# Altium integrated library ISSI SRAM Synchronous SRAM Flow-Through.IntLib: 689 symbols (part 27 of 79)
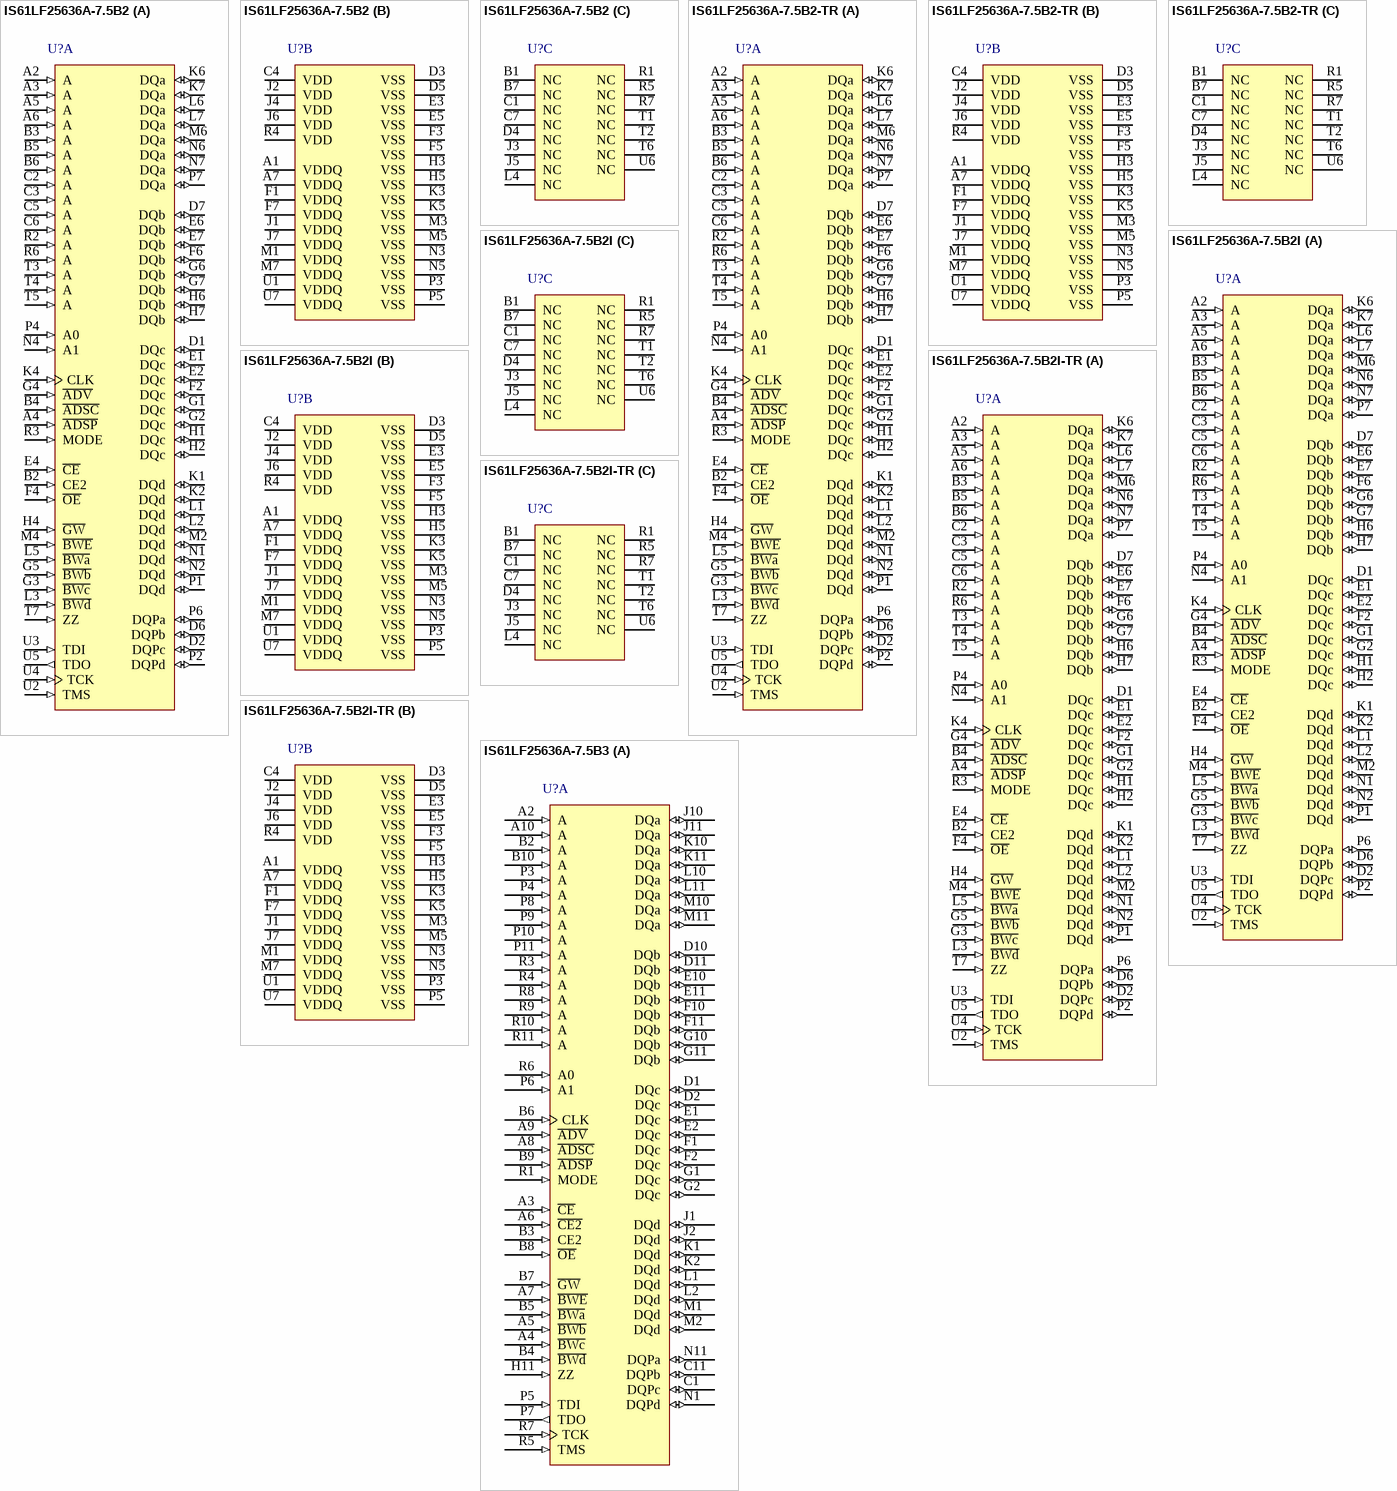
[diagram p161: symbols IS61LF25636A-7.5B2 to IS61LF25636A-7.5B3]

## IS61LF25636A-7.5B2I-TR
designator U?
9 M Synchronous Flow Through SRAM, 256 K x 36, -40 to 85 degC, 119-Pin BGA (PBGA-119); Manufacturer: Integrated Silicon Solution Inc (ISSI); PartNumber: IS61LF25636A-7.5B2I-TR; Density: 9M; Packing: Tape & Reel; Vcc: 3.3 V; VccQ: 2.5 / 3.3 V; DatasheetVersion: Rev. H; PackageVersion: Rev. D, 10/2008; PackageReference: PBGA-119; PackageDescription: 119-Pin 14 x 22 mm PBGA, Pitch 1.27 mm; Organization: 256Kx36; Mounting Technology: Surface Mount; Code_JEDEC: MS-028; ComponentLink1Description: Manufacturer URL; ComponentLink1URL: http://www.issi.com/US/index.shtml; ComponentLink2Description: Datasheet; ComponentLink2URL: http://www.issi.com/WW/pdf/61VF_LF25636A_51218A.pdf; ComponentLink3Description: Package Specification; ComponentLink3URL: http://www.issi.com/WW/pdf/61NLP_NVP25636A_51218A.pdf
footprint ISSI-PBGA-119-14000X22000DE (BGA, 119-Balls, Body 22x14mm, Pitch 1.27mm)
part A pins: A2 A (in) "Address Input", A3 A (in) "Address Input", A4 ~{ADSP} (in) "Address Status Processor", A5 A (in) "Address Input", A6 A (in) "Address Input", B2 CE2 (in) "Synchronous Chip Select", B3 A (in) "Address Input", B4 ~{ADSC} (in) "Address Status Controller", B5 A (in) "Address Input", B6 A (in) "Address Input", C2 A (in) "Address Input", C3 A (in) "Address Input", C5 A (in) "Address Input", C6 A (in) "Address Input", D1 DQc (io) "Data Input/Output", D2 DQPc (io) "Parity Data I/O", D6 DQPb (io) "Parity Data I/O", D7 DQb (io) "Data Input/Output", E1 DQc (io) "Data Input/Output", E2 DQc (io) "Data Input/Output", E4 ~{CE} (in) "Synchronous Chip Select", E6 DQb (io) "Data Input/Output", E7 DQb (io) "Data Input/Output", F2 DQc (io) "Data Input/Output", F4 ~{OE} (in) "Output Enable", F6 DQb (io) "Data Input/Output", G1 DQc (io) "Data Input/Output", G2 DQc (io) "Data Input/Output", G3 ~{BWc} (in) "Synchronous Byte Write Control", G4 ~{ADV} (in) "Synchronous Burst Address Advance", G5 ~{BWb} (in) "Synchronous Byte Write Control", G6 DQb (io) "Data Input/Output", G7 DQb (io) "Data Input/Output", H1 DQc (io) "Data Input/Output", H2 DQc (io) "Data Input/Output", H4 ~{GW} (in) "Global Write Enable", H6 DQb (io) "Data Input/Output", H7 DQb (io) "Data Input/Output", K1 DQd (io) "Data Input/Output", K2 DQd (io) "Data Input/Output", K4 CLK (in) "Synchronous Clock", K6 DQa (io) "Data Input/Output", K7 DQa (io) "Data Input/Output", L1 DQd (io) "Data Input/Output", L2 DQd (io) "Data Input/Output", L3 ~{BWd} (in) "Synchronous Byte Write Control", L5 ~{BWa} (in) "Synchronous Byte Write Control", L6 DQa (io) "Data Input/Output", L7 DQa (io) "Data Input/Output", M2 DQd (io) "Data Input/Output", M4 ~{BWE} (in) "Byte Write Enable", M6 DQa (io) "Data Input/Output", N1 DQd (io) "Data Input/Output", N2 DQd (io) "Data Input/Output", N4 A1 (in) "Synchronous Burst Address Input", N6 DQa (io) "Data Input/Output", N7 DQa (io) "Data Input/Output", P1 DQd (io) "Data Input/Output", P2 DQPd (io) "Parity Data I/O", P4 A0 (in) "Synchronous Burst Address Input", P6 DQPa (io) "Parity Data I/O", P7 DQa (io) "Data Input/Output", R2 A (in) "Address Input", R3 MODE (in) "Burst Sequence Selection", R6 A (in) "Address Input", T3 A (in) "Address Input", T4 A (in) "Address Input", T5 A (in) "Address Input", T7 ZZ (in) "Power Sleep Mode", U2 TMS (in) "JTAG Pin", U3 TDI (in) "JTAG Pin", U4 TCK (in) "JTAG Pin", U5 TDO (out) "JTAG Pin"
part B pins: A1 VDDQ (power) "Output Power Supply", A7 VDDQ (power) "Output Power Supply", C4 VDD (power) "Power Supply", D3 VSS (power) "Ground", D5 VSS (power) "Ground", E3 VSS (power) "Ground", E5 VSS (power) "Ground", F1 VDDQ (power) "Output Power Supply", F3 VSS (power) "Ground", F5 VSS (power) "Ground", F7 VDDQ (power) "Output Power Supply", H3 VSS (power) "Ground", H5 VSS (power) "Ground", J1 VDDQ (power) "Output Power Supply", J2 VDD (power) "Power Supply", J4 VDD (power) "Power Supply", J6 VDD (power) "Power Supply", J7 VDDQ (power) "Output Power Supply", K3 VSS (power) "Ground", K5 VSS (power) "Ground", M1 VDDQ (power) "Output Power Supply", M3 VSS (power) "Ground", M5 VSS (power) "Ground", M7 VDDQ (power) "Output Power Supply", N3 VSS (power) "Ground", N5 VSS (power) "Ground", P3 VSS (power) "Ground", P5 VSS (power) "Ground", R4 VDD (power) "Power Supply", U1 VDDQ (power) "Output Power Supply", U7 VDDQ (power) "Output Power Supply"
part C pins: B1 NC "No Connect", B7 NC "No Connect", C1 NC "No Connect", C7 NC "No Connect", D4 NC "No Connect", J3 NC "No Connect", J5 NC "No Connect", L4 NC "No Connect", R1 NC "No Connect", R5 NC "No Connect", R7 NC "No Connect", T1 NC "No Connect", T2 NC "No Connect", T6 NC "No Connect", U6 NC "No Connect"

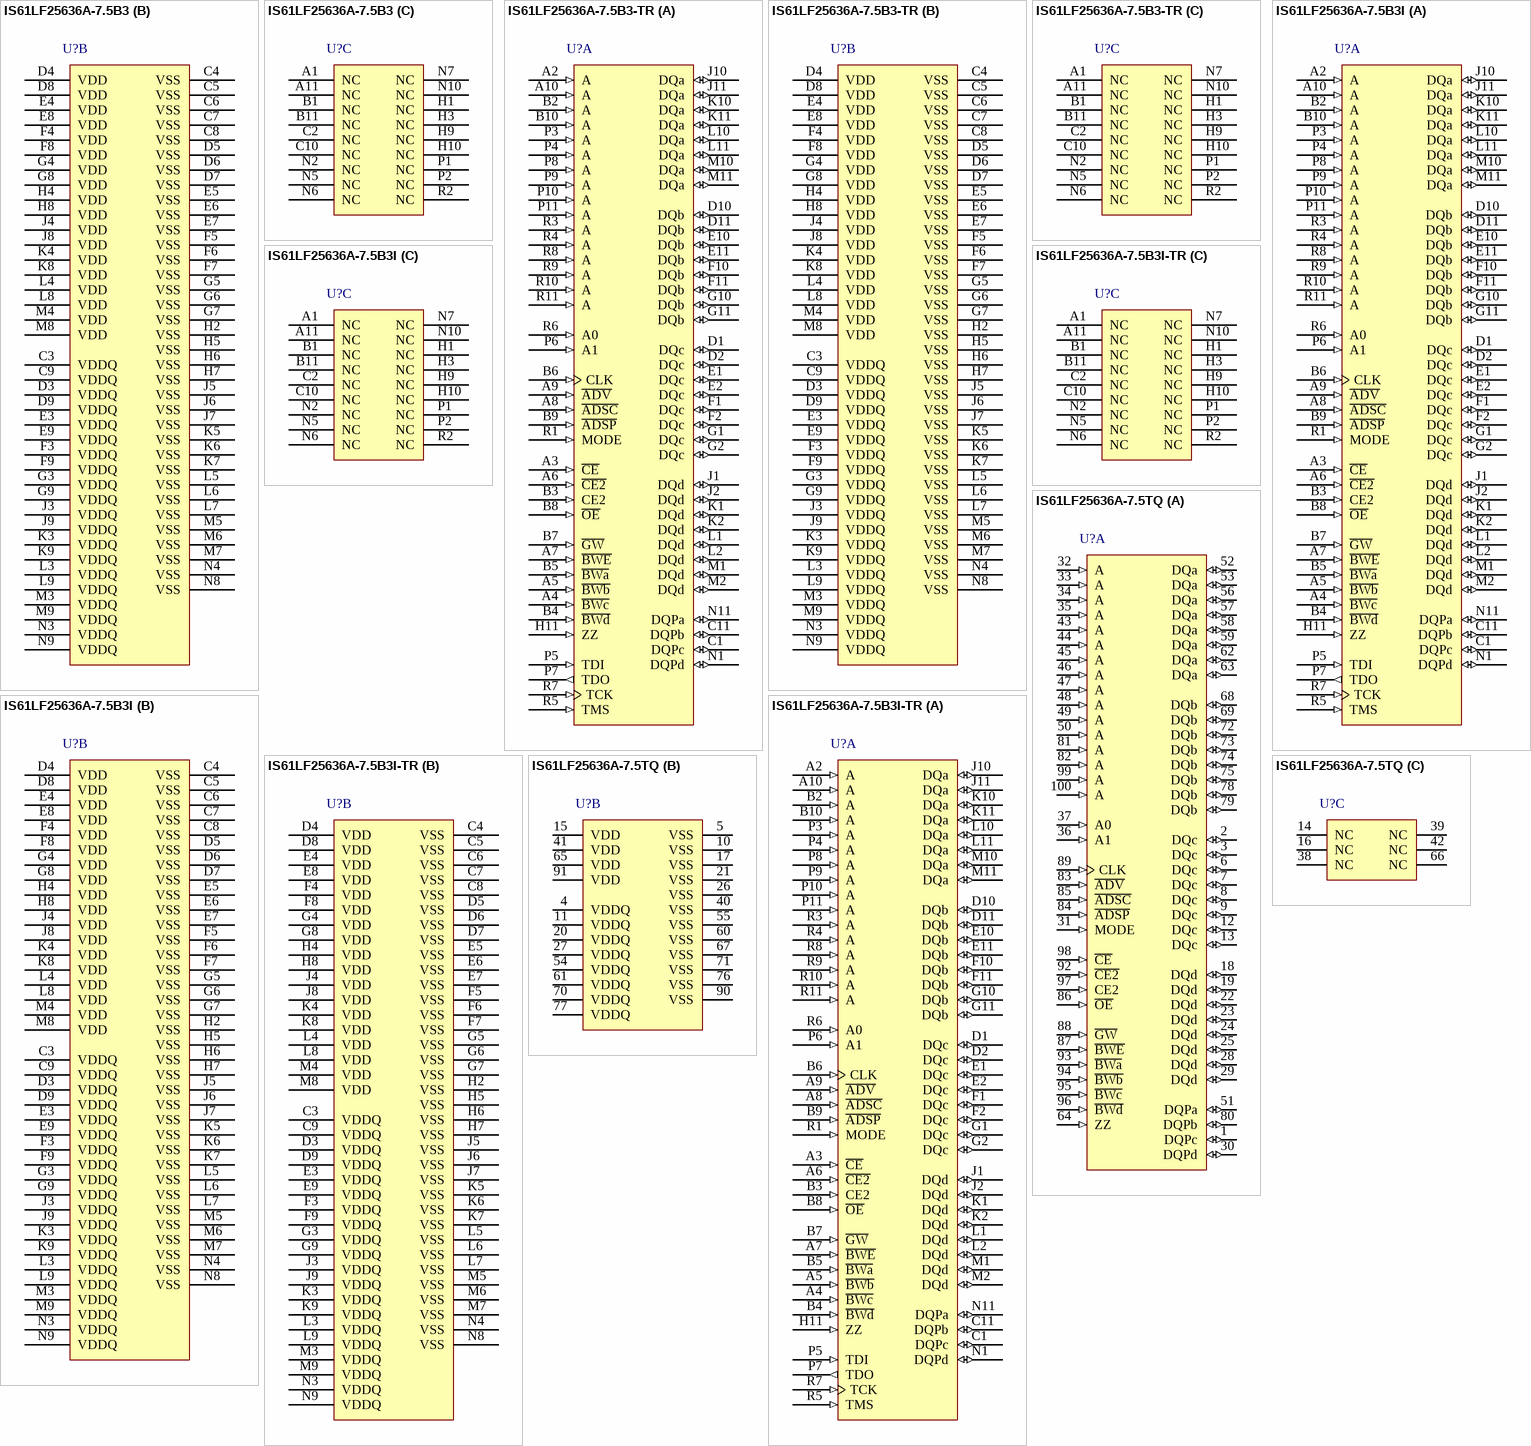
[diagram p46: symbols IS61LF25636A-7.5B3 to IS61LF25636A-7.5TQ]

## IS61LF25636A-7.5B3
designator U?
9 M Synchronous Flow Through SRAM, 256 K x 36, 0 to 70 degC, 165-Pin BGA (TF-BGA-165); Manufacturer: Integrated Silicon Solution Inc (ISSI); PartNumber: IS61LF25636A-7.5B3; Density: 9M; Packing: Tray / Tube; Vcc: 3.3 V; VccQ: 2.5 / 3.3 V; DatasheetVersion: Rev. H; PackageVersion: Rev. B, 08/2008; PackageReference: TF-BGA-165; PackageDescription: 165-Pin 13 x 15 mm TF-BGA, Pitch 1 mm; Organization: 256Kx36; Mounting Technology: Surface Mount; ComponentLink1Description: Manufacturer URL; ComponentLink1URL: http://www.issi.com/US/index.shtml; ComponentLink2Description: Datasheet; ComponentLink2URL: http://www.issi.com/WW/pdf/61VF_LF25636A_51218A.pdf; ComponentLink3Description: Package Specification; ComponentLink3URL: http://www.issi.com/WW/pdf/61NLP_NVP25636A_51218A.pdf
footprint ISSI-TF-BGA-165-13000X15000DE (BGA, 165-Balls, Body 15x13mm, Pitch 1mm)
part A pins: A2 A (in) "Synchronous Address Inputs", A3 ~{CE} (in) "Synchronous Chip Enable", A4 ~{BWc} (in) "Synchronous Byte Write Inputs", A5 ~{BWb} (in) "Synchronous Byte Write Inputs", A6 ~{CE2} (in) "Synchronous Chip Enable", A7 ~{BWE} (in) "Byte Write Enable", A8 ~{ADSC} (in) "Synchronous Advance/Load", A9 ~{ADV} (in) "Synchronous Burst Address Advance", A10 A (in) "Synchronous Address Inputs", B2 A (in) "Synchronous Address Inputs", B3 CE2 (in) "Synchronous Chip Enable", B4 ~{BWd} (in) "Synchronous Byte Write Inputs", B5 ~{BWa} (in) "Synchronous Byte Write Inputs", B6 CLK (in) "Synchronous Clock", B7 ~{GW} (in) "Global Write Enable", B8 ~{OE} (in) "Asynchronous Output Enable", B9 ~{ADSP} (in) "Address Status Processor", B10 A (in) "Synchronous Address Inputs", C1 DQPc (io) "Synchronous Parity Data I/O", C11 DQPb (io) "Synchronous Parity Data I/O", D1 DQc (io) "Synchronous Data Inputs/Outputs", D2 DQc (io) "Synchronous Data Inputs/Outputs", D10 DQb (io) "Synchronous Data Inputs/Outputs", D11 DQb (io) "Synchronous Data Inputs/Outputs", E1 DQc (io) "Synchronous Data Inputs/Outputs", E2 DQc (io) "Synchronous Data Inputs/Outputs", E10 DQb (io) "Synchronous Data Inputs/Outputs", E11 DQb (io) "Synchronous Data Inputs/Outputs", F1 DQc (io) "Synchronous Data Inputs/Outputs", F2 DQc (io) "Synchronous Data Inputs/Outputs", F10 DQb (io) "Synchronous Data Inputs/Outputs", F11 DQb (io) "Synchronous Data Inputs/Outputs", G1 DQc (io) "Synchronous Data Inputs/Outputs", G2 DQc (io) "Synchronous Data Inputs/Outputs", G10 DQb (io) "Synchronous Data Inputs/Outputs", G11 DQb (io) "Synchronous Data Inputs/Outputs", H11 ZZ (in) "Asynchronous Power Sleep Mode", J1 DQd (io) "Synchronous Data Inputs/Outputs", J2 DQd (io) "Synchronous Data Inputs/Outputs", J10 DQa (io) "Synchronous Data Inputs/Outputs", J11 DQa (io) "Synchronous Data Inputs/Outputs", K1 DQd (io) "Synchronous Data Inputs/Outputs", K2 DQd (io) "Synchronous Data Inputs/Outputs", K10 DQa (io) "Synchronous Data Inputs/Outputs", K11 DQa (io) "Synchronous Data Inputs/Outputs", L1 DQd (io) "Synchronous Data Inputs/Outputs", L2 DQd (io) "Synchronous Data Inputs/Outputs", L10 DQa (io) "Synchronous Data Inputs/Outputs", L11 DQa (io) "Synchronous Data Inputs/Outputs", M1 DQd (io) "Synchronous Data Inputs/Outputs", M2 DQd (io) "Synchronous Data Inputs/Outputs", M10 DQa (io) "Synchronous Data Inputs/Outputs", M11 DQa (io) "Synchronous Data Inputs/Outputs", N1 DQPd (io) "Synchronous Parity Data I/O", N11 DQPa (io) "Synchronous Parity Data I/O", P3 A (in) "Synchronous Address Inputs", P4 A (in) "Synchronous Address Inputs", P5 TDI (in) "JTAG Pins", P6 A1 (in) "Synchronous Burst Address Inputs", P7 TDO (out) "JTAG Pins", P8 A (in) "Synchronous Address Inputs", P9 A (in) "Synchronous Address Inputs", P10 A (in) "Synchronous Address Inputs", P11 A (in) "Address Input", R1 MODE (in) "Burst Sequence Selection", R3 A (in) "Synchronous Address Inputs", R4 A (in) "Synchronous Address Inputs", R5 TMS (in) "JTAG Pins", R6 A0 (in) "Synchronous Burst Address Inputs", R7 TCK (in) "JTAG Pins", R8 A (in) "Synchronous Address Inputs", R9 A (in) "Synchronous Address Inputs", R10 A (in) "Synchronous Address Inputs", R11 A (in) "Synchronous Address Inputs"
part B pins: C3 VDDQ (power) "Isolated Output Power Supply 3.3V/2.5V", C4 VSS (power) "Ground", C5 VSS (power) "Ground", C6 VSS (power) "Ground", C7 VSS (power) "Ground", C8 VSS (power) "Ground", C9 VDDQ (power) "Isolated Output Power Supply 3.3V/2.5V", D3 VDDQ (power) "Isolated Output Power Supply 3.3V/2.5V", D4 VDD (power) "3.3V/2.5V Power Supply", D5 VSS (power) "Ground", D6 VSS (power) "Ground", D7 VSS (power) "Ground", D8 VDD (power) "3.3V/2.5V Power Supply", D9 VDDQ (power) "Isolated Output Power Supply 3.3V/2.5V", E3 VDDQ (power) "Isolated Output Power Supply 3.3V/2.5V", E4 VDD (power) "3.3V/2.5V Power Supply", E5 VSS (power) "Ground", E6 VSS (power) "Ground", E7 VSS (power) "Ground", E8 VDD (power) "3.3V/2.5V Power Supply", E9 VDDQ (power) "Isolated Output Power Supply 3.3V/2.5V", F3 VDDQ (power) "Isolated Output Power Supply 3.3V/2.5V", F4 VDD (power) "3.3V/2.5V Power Supply", F5 VSS (power) "Ground", F6 VSS (power) "Ground", F7 VSS (power) "Ground", F8 VDD (power) "3.3V/2.5V Power Supply", F9 VDDQ (power) "Isolated Output Power Supply 3.3V/2.5V", G3 VDDQ (power) "Isolated Output Power Supply 3.3V/2.5V", G4 VDD (power) "3.3V/2.5V Power Supply", G5 VSS (power) "Ground", G6 VSS (power) "Ground", G7 VSS (power) "Ground", G8 VDD (power) "3.3V/2.5V Power Supply", G9 VDDQ (power) "Isolated Output Power Supply 3.3V/2.5V", H2 VSS (power) "Ground", H4 VDD (power) "3.3V/2.5V Power Supply", H5 VSS (power) "Ground", H6 VSS (power) "Ground", H7 VSS (power) "Ground", H8 VDD (power) "3.3V/2.5V Power Supply", J3 VDDQ (power) "Isolated Output Power Supply 3.3V/2.5V", J4 VDD (power) "3.3V/2.5V Power Supply", J5 VSS (power) "Ground", J6 VSS (power) "Ground", J7 VSS (power) "Ground", J8 VDD (power) "3.3V/2.5V Power Supply", J9 VDDQ (power) "Isolated Output Power Supply 3.3V/2.5V", K3 VDDQ (power) "Isolated Output Power Supply 3.3V/2.5V", K4 VDD (power) "3.3V/2.5V Power Supply", K5 VSS (power) "Ground", K6 VSS (power) "Ground", K7 VSS (power) "Ground", K8 VDD (power) "3.3V/2.5V Power Supply", K9 VDDQ (power) "Isolated Output Power Supply 3.3V/2.5V", L3 VDDQ (power) "Isolated Output Power Supply 3.3V/2.5V", L4 VDD (power) "3.3V/2.5V Power Supply", L5 VSS (power) "Ground", L6 VSS (power) "Ground", L7 VSS (power) "Ground", L8 VDD (power) "3.3V/2.5V Power Supply", L9 VDDQ (power) "Isolated Output Power Supply 3.3V/2.5V", M3 VDDQ (power) "Isolated Output Power Supply 3.3V/2.5V", M4 VDD (power) "3.3V/2.5V Power Supply", M5 VSS (power) "Ground", M6 VSS (power) "Ground", M7 VSS (power) "Ground", M8 VDD (power) "3.3V/2.5V Power Supply", M9 VDDQ (power) "Isolated Output Power Supply 3.3V/2.5V", N3 VDDQ (power) "Isolated Output Power Supply 3.3V/2.5V", N4 VSS (power) "Ground", N8 VSS (power) "Ground", N9 VDDQ (power) "Isolated Output Power Supply 3.3V/2.5V"
part C pins: A1 NC "No Connect", A11 NC "No Connect", B1 NC "No Connect", B11 NC "No Connect", C2 NC "No Connect", C10 NC "No Connect", H1 NC "No Connect", H3 NC "No Connect", H9 NC "No Connect", H10 NC "No Connect", N2 NC "No Connect", N5 NC "No Connect", N6 NC "No Connect", N7 NC "No Connect", N10 NC "No Connect", P1 NC "No Connect", P2 NC "No Connect", R2 NC "No Connect"

## IS61LF25636A-7.5B3-TR
designator U?
9 M Synchronous Flow Through SRAM, 256 K x 36, 0 to 70 degC, 165-Pin BGA (TF-BGA-165); Manufacturer: Integrated Silicon Solution Inc (ISSI); PartNumber: IS61LF25636A-7.5B3-TR; Density: 9M; Packing: Tape & Reel; Vcc: 3.3 V; VccQ: 2.5 / 3.3 V; DatasheetVersion: Rev. H; PackageVersion: Rev. B, 08/2008; PackageReference: TF-BGA-165; PackageDescription: 165-Pin 13 x 15 mm TF-BGA, Pitch 1 mm; Organization: 256Kx36; Mounting Technology: Surface Mount; ComponentLink1Description: Manufacturer URL; ComponentLink1URL: http://www.issi.com/US/index.shtml; ComponentLink2Description: Datasheet; ComponentLink2URL: http://www.issi.com/WW/pdf/61VF_LF25636A_51218A.pdf; ComponentLink3Description: Package Specification; ComponentLink3URL: http://www.issi.com/WW/pdf/61NLP_NVP25636A_51218A.pdf
footprint ISSI-TF-BGA-165-13000X15000DE (BGA, 165-Balls, Body 15x13mm, Pitch 1mm)
part A pins: A2 A (in) "Synchronous Address Inputs", A3 ~{CE} (in) "Synchronous Chip Enable", A4 ~{BWc} (in) "Synchronous Byte Write Inputs", A5 ~{BWb} (in) "Synchronous Byte Write Inputs", A6 ~{CE2} (in) "Synchronous Chip Enable", A7 ~{BWE} (in) "Byte Write Enable", A8 ~{ADSC} (in) "Synchronous Advance/Load", A9 ~{ADV} (in) "Synchronous Burst Address Advance", A10 A (in) "Synchronous Address Inputs", B2 A (in) "Synchronous Address Inputs", B3 CE2 (in) "Synchronous Chip Enable", B4 ~{BWd} (in) "Synchronous Byte Write Inputs", B5 ~{BWa} (in) "Synchronous Byte Write Inputs", B6 CLK (in) "Synchronous Clock", B7 ~{GW} (in) "Global Write Enable", B8 ~{OE} (in) "Asynchronous Output Enable", B9 ~{ADSP} (in) "Address Status Processor", B10 A (in) "Synchronous Address Inputs", C1 DQPc (io) "Synchronous Parity Data I/O", C11 DQPb (io) "Synchronous Parity Data I/O", D1 DQc (io) "Synchronous Data Inputs/Outputs", D2 DQc (io) "Synchronous Data Inputs/Outputs", D10 DQb (io) "Synchronous Data Inputs/Outputs", D11 DQb (io) "Synchronous Data Inputs/Outputs", E1 DQc (io) "Synchronous Data Inputs/Outputs", E2 DQc (io) "Synchronous Data Inputs/Outputs", E10 DQb (io) "Synchronous Data Inputs/Outputs", E11 DQb (io) "Synchronous Data Inputs/Outputs", F1 DQc (io) "Synchronous Data Inputs/Outputs", F2 DQc (io) "Synchronous Data Inputs/Outputs", F10 DQb (io) "Synchronous Data Inputs/Outputs", F11 DQb (io) "Synchronous Data Inputs/Outputs", G1 DQc (io) "Synchronous Data Inputs/Outputs", G2 DQc (io) "Synchronous Data Inputs/Outputs", G10 DQb (io) "Synchronous Data Inputs/Outputs", G11 DQb (io) "Synchronous Data Inputs/Outputs", H11 ZZ (in) "Asynchronous Power Sleep Mode", J1 DQd (io) "Synchronous Data Inputs/Outputs", J2 DQd (io) "Synchronous Data Inputs/Outputs", J10 DQa (io) "Synchronous Data Inputs/Outputs", J11 DQa (io) "Synchronous Data Inputs/Outputs", K1 DQd (io) "Synchronous Data Inputs/Outputs", K2 DQd (io) "Synchronous Data Inputs/Outputs", K10 DQa (io) "Synchronous Data Inputs/Outputs", K11 DQa (io) "Synchronous Data Inputs/Outputs", L1 DQd (io) "Synchronous Data Inputs/Outputs", L2 DQd (io) "Synchronous Data Inputs/Outputs", L10 DQa (io) "Synchronous Data Inputs/Outputs", L11 DQa (io) "Synchronous Data Inputs/Outputs", M1 DQd (io) "Synchronous Data Inputs/Outputs", M2 DQd (io) "Synchronous Data Inputs/Outputs", M10 DQa (io) "Synchronous Data Inputs/Outputs", M11 DQa (io) "Synchronous Data Inputs/Outputs", N1 DQPd (io) "Synchronous Parity Data I/O", N11 DQPa (io) "Synchronous Parity Data I/O", P3 A (in) "Synchronous Address Inputs", P4 A (in) "Synchronous Address Inputs", P5 TDI (in) "JTAG Pins", P6 A1 (in) "Synchronous Burst Address Inputs", P7 TDO (out) "JTAG Pins", P8 A (in) "Synchronous Address Inputs", P9 A (in) "Synchronous Address Inputs", P10 A (in) "Synchronous Address Inputs", P11 A (in) "Address Input", R1 MODE (in) "Burst Sequence Selection", R3 A (in) "Synchronous Address Inputs", R4 A (in) "Synchronous Address Inputs", R5 TMS (in) "JTAG Pins", R6 A0 (in) "Synchronous Burst Address Inputs", R7 TCK (in) "JTAG Pins", R8 A (in) "Synchronous Address Inputs", R9 A (in) "Synchronous Address Inputs", R10 A (in) "Synchronous Address Inputs", R11 A (in) "Synchronous Address Inputs"
part B pins: C3 VDDQ (power) "Isolated Output Power Supply 3.3V/2.5V", C4 VSS (power) "Ground", C5 VSS (power) "Ground", C6 VSS (power) "Ground", C7 VSS (power) "Ground", C8 VSS (power) "Ground", C9 VDDQ (power) "Isolated Output Power Supply 3.3V/2.5V", D3 VDDQ (power) "Isolated Output Power Supply 3.3V/2.5V", D4 VDD (power) "3.3V/2.5V Power Supply", D5 VSS (power) "Ground", D6 VSS (power) "Ground", D7 VSS (power) "Ground", D8 VDD (power) "3.3V/2.5V Power Supply", D9 VDDQ (power) "Isolated Output Power Supply 3.3V/2.5V", E3 VDDQ (power) "Isolated Output Power Supply 3.3V/2.5V", E4 VDD (power) "3.3V/2.5V Power Supply", E5 VSS (power) "Ground", E6 VSS (power) "Ground", E7 VSS (power) "Ground", E8 VDD (power) "3.3V/2.5V Power Supply", E9 VDDQ (power) "Isolated Output Power Supply 3.3V/2.5V", F3 VDDQ (power) "Isolated Output Power Supply 3.3V/2.5V", F4 VDD (power) "3.3V/2.5V Power Supply", F5 VSS (power) "Ground", F6 VSS (power) "Ground", F7 VSS (power) "Ground", F8 VDD (power) "3.3V/2.5V Power Supply", F9 VDDQ (power) "Isolated Output Power Supply 3.3V/2.5V", G3 VDDQ (power) "Isolated Output Power Supply 3.3V/2.5V", G4 VDD (power) "3.3V/2.5V Power Supply", G5 VSS (power) "Ground", G6 VSS (power) "Ground", G7 VSS (power) "Ground", G8 VDD (power) "3.3V/2.5V Power Supply", G9 VDDQ (power) "Isolated Output Power Supply 3.3V/2.5V", H2 VSS (power) "Ground", H4 VDD (power) "3.3V/2.5V Power Supply", H5 VSS (power) "Ground", H6 VSS (power) "Ground", H7 VSS (power) "Ground", H8 VDD (power) "3.3V/2.5V Power Supply", J3 VDDQ (power) "Isolated Output Power Supply 3.3V/2.5V", J4 VDD (power) "3.3V/2.5V Power Supply", J5 VSS (power) "Ground", J6 VSS (power) "Ground", J7 VSS (power) "Ground", J8 VDD (power) "3.3V/2.5V Power Supply", J9 VDDQ (power) "Isolated Output Power Supply 3.3V/2.5V", K3 VDDQ (power) "Isolated Output Power Supply 3.3V/2.5V", K4 VDD (power) "3.3V/2.5V Power Supply", K5 VSS (power) "Ground", K6 VSS (power) "Ground", K7 VSS (power) "Ground", K8 VDD (power) "3.3V/2.5V Power Supply", K9 VDDQ (power) "Isolated Output Power Supply 3.3V/2.5V", L3 VDDQ (power) "Isolated Output Power Supply 3.3V/2.5V", L4 VDD (power) "3.3V/2.5V Power Supply", L5 VSS (power) "Ground", L6 VSS (power) "Ground", L7 VSS (power) "Ground", L8 VDD (power) "3.3V/2.5V Power Supply", L9 VDDQ (power) "Isolated Output Power Supply 3.3V/2.5V", M3 VDDQ (power) "Isolated Output Power Supply 3.3V/2.5V", M4 VDD (power) "3.3V/2.5V Power Supply", M5 VSS (power) "Ground", M6 VSS (power) "Ground", M7 VSS (power) "Ground", M8 VDD (power) "3.3V/2.5V Power Supply", M9 VDDQ (power) "Isolated Output Power Supply 3.3V/2.5V", N3 VDDQ (power) "Isolated Output Power Supply 3.3V/2.5V", N4 VSS (power) "Ground", N8 VSS (power) "Ground", N9 VDDQ (power) "Isolated Output Power Supply 3.3V/2.5V"
part C pins: A1 NC "No Connect", A11 NC "No Connect", B1 NC "No Connect", B11 NC "No Connect", C2 NC "No Connect", C10 NC "No Connect", H1 NC "No Connect", H3 NC "No Connect", H9 NC "No Connect", H10 NC "No Connect", N2 NC "No Connect", N5 NC "No Connect", N6 NC "No Connect", N7 NC "No Connect", N10 NC "No Connect", P1 NC "No Connect", P2 NC "No Connect", R2 NC "No Connect"

## IS61LF25636A-7.5B3I
designator U?
9 M Synchronous Flow Through SRAM, 256 K x 36, -40 to 85 degC, 165-Pin BGA (TF-BGA-165); Manufacturer: Integrated Silicon Solution Inc (ISSI); PartNumber: IS61LF25636A-7.5B3I; Density: 9M; Packing: Tray / Tube; Vcc: 3.3 V; VccQ: 2.5 / 3.3 V; DatasheetVersion: Rev. H; PackageVersion: Rev. B, 08/2008; PackageReference: TF-BGA-165; PackageDescription: 165-Pin 13 x 15 mm TF-BGA, Pitch 1 mm; Organization: 256Kx36; Mounting Technology: Surface Mount; ComponentLink1Description: Manufacturer URL; ComponentLink1URL: http://www.issi.com/US/index.shtml; ComponentLink2Description: Datasheet; ComponentLink2URL: http://www.issi.com/WW/pdf/61VF_LF25636A_51218A.pdf; ComponentLink3Description: Package Specification; ComponentLink3URL: http://www.issi.com/WW/pdf/61NLP_NVP25636A_51218A.pdf
footprint ISSI-TF-BGA-165-13000X15000DE (BGA, 165-Balls, Body 15x13mm, Pitch 1mm)
part A pins: A2 A (in) "Synchronous Address Inputs", A3 ~{CE} (in) "Synchronous Chip Enable", A4 ~{BWc} (in) "Synchronous Byte Write Inputs", A5 ~{BWb} (in) "Synchronous Byte Write Inputs", A6 ~{CE2} (in) "Synchronous Chip Enable", A7 ~{BWE} (in) "Byte Write Enable", A8 ~{ADSC} (in) "Synchronous Advance/Load", A9 ~{ADV} (in) "Synchronous Burst Address Advance", A10 A (in) "Synchronous Address Inputs", B2 A (in) "Synchronous Address Inputs", B3 CE2 (in) "Synchronous Chip Enable", B4 ~{BWd} (in) "Synchronous Byte Write Inputs", B5 ~{BWa} (in) "Synchronous Byte Write Inputs", B6 CLK (in) "Synchronous Clock", B7 ~{GW} (in) "Global Write Enable", B8 ~{OE} (in) "Asynchronous Output Enable", B9 ~{ADSP} (in) "Address Status Processor", B10 A (in) "Synchronous Address Inputs", C1 DQPc (io) "Synchronous Parity Data I/O", C11 DQPb (io) "Synchronous Parity Data I/O", D1 DQc (io) "Synchronous Data Inputs/Outputs", D2 DQc (io) "Synchronous Data Inputs/Outputs", D10 DQb (io) "Synchronous Data Inputs/Outputs", D11 DQb (io) "Synchronous Data Inputs/Outputs", E1 DQc (io) "Synchronous Data Inputs/Outputs", E2 DQc (io) "Synchronous Data Inputs/Outputs", E10 DQb (io) "Synchronous Data Inputs/Outputs", E11 DQb (io) "Synchronous Data Inputs/Outputs", F1 DQc (io) "Synchronous Data Inputs/Outputs", F2 DQc (io) "Synchronous Data Inputs/Outputs", F10 DQb (io) "Synchronous Data Inputs/Outputs", F11 DQb (io) "Synchronous Data Inputs/Outputs", G1 DQc (io) "Synchronous Data Inputs/Outputs", G2 DQc (io) "Synchronous Data Inputs/Outputs", G10 DQb (io) "Synchronous Data Inputs/Outputs", G11 DQb (io) "Synchronous Data Inputs/Outputs", H11 ZZ (in) "Asynchronous Power Sleep Mode", J1 DQd (io) "Synchronous Data Inputs/Outputs", J2 DQd (io) "Synchronous Data Inputs/Outputs", J10 DQa (io) "Synchronous Data Inputs/Outputs", J11 DQa (io) "Synchronous Data Inputs/Outputs", K1 DQd (io) "Synchronous Data Inputs/Outputs", K2 DQd (io) "Synchronous Data Inputs/Outputs", K10 DQa (io) "Synchronous Data Inputs/Outputs", K11 DQa (io) "Synchronous Data Inputs/Outputs", L1 DQd (io) "Synchronous Data Inputs/Outputs", L2 DQd (io) "Synchronous Data Inputs/Outputs", L10 DQa (io) "Synchronous Data Inputs/Outputs", L11 DQa (io) "Synchronous Data Inputs/Outputs", M1 DQd (io) "Synchronous Data Inputs/Outputs", M2 DQd (io) "Synchronous Data Inputs/Outputs", M10 DQa (io) "Synchronous Data Inputs/Outputs", M11 DQa (io) "Synchronous Data Inputs/Outputs", N1 DQPd (io) "Synchronous Parity Data I/O", N11 DQPa (io) "Synchronous Parity Data I/O", P3 A (in) "Synchronous Address Inputs", P4 A (in) "Synchronous Address Inputs", P5 TDI (in) "JTAG Pins", P6 A1 (in) "Synchronous Burst Address Inputs", P7 TDO (out) "JTAG Pins", P8 A (in) "Synchronous Address Inputs", P9 A (in) "Synchronous Address Inputs", P10 A (in) "Synchronous Address Inputs", P11 A (in) "Address Input", R1 MODE (in) "Burst Sequence Selection", R3 A (in) "Synchronous Address Inputs", R4 A (in) "Synchronous Address Inputs", R5 TMS (in) "JTAG Pins", R6 A0 (in) "Synchronous Burst Address Inputs", R7 TCK (in) "JTAG Pins", R8 A (in) "Synchronous Address Inputs", R9 A (in) "Synchronous Address Inputs", R10 A (in) "Synchronous Address Inputs", R11 A (in) "Synchronous Address Inputs"
part B pins: C3 VDDQ (power) "Isolated Output Power Supply 3.3V/2.5V", C4 VSS (power) "Ground", C5 VSS (power) "Ground", C6 VSS (power) "Ground", C7 VSS (power) "Ground", C8 VSS (power) "Ground", C9 VDDQ (power) "Isolated Output Power Supply 3.3V/2.5V", D3 VDDQ (power) "Isolated Output Power Supply 3.3V/2.5V", D4 VDD (power) "3.3V/2.5V Power Supply", D5 VSS (power) "Ground", D6 VSS (power) "Ground", D7 VSS (power) "Ground", D8 VDD (power) "3.3V/2.5V Power Supply", D9 VDDQ (power) "Isolated Output Power Supply 3.3V/2.5V", E3 VDDQ (power) "Isolated Output Power Supply 3.3V/2.5V", E4 VDD (power) "3.3V/2.5V Power Supply", E5 VSS (power) "Ground", E6 VSS (power) "Ground", E7 VSS (power) "Ground", E8 VDD (power) "3.3V/2.5V Power Supply", E9 VDDQ (power) "Isolated Output Power Supply 3.3V/2.5V", F3 VDDQ (power) "Isolated Output Power Supply 3.3V/2.5V", F4 VDD (power) "3.3V/2.5V Power Supply", F5 VSS (power) "Ground", F6 VSS (power) "Ground", F7 VSS (power) "Ground", F8 VDD (power) "3.3V/2.5V Power Supply", F9 VDDQ (power) "Isolated Output Power Supply 3.3V/2.5V", G3 VDDQ (power) "Isolated Output Power Supply 3.3V/2.5V", G4 VDD (power) "3.3V/2.5V Power Supply", G5 VSS (power) "Ground", G6 VSS (power) "Ground", G7 VSS (power) "Ground", G8 VDD (power) "3.3V/2.5V Power Supply", G9 VDDQ (power) "Isolated Output Power Supply 3.3V/2.5V", H2 VSS (power) "Ground", H4 VDD (power) "3.3V/2.5V Power Supply", H5 VSS (power) "Ground", H6 VSS (power) "Ground", H7 VSS (power) "Ground", H8 VDD (power) "3.3V/2.5V Power Supply", J3 VDDQ (power) "Isolated Output Power Supply 3.3V/2.5V", J4 VDD (power) "3.3V/2.5V Power Supply", J5 VSS (power) "Ground", J6 VSS (power) "Ground", J7 VSS (power) "Ground", J8 VDD (power) "3.3V/2.5V Power Supply", J9 VDDQ (power) "Isolated Output Power Supply 3.3V/2.5V", K3 VDDQ (power) "Isolated Output Power Supply 3.3V/2.5V", K4 VDD (power) "3.3V/2.5V Power Supply", K5 VSS (power) "Ground", K6 VSS (power) "Ground", K7 VSS (power) "Ground", K8 VDD (power) "3.3V/2.5V Power Supply", K9 VDDQ (power) "Isolated Output Power Supply 3.3V/2.5V", L3 VDDQ (power) "Isolated Output Power Supply 3.3V/2.5V", L4 VDD (power) "3.3V/2.5V Power Supply", L5 VSS (power) "Ground", L6 VSS (power) "Ground", L7 VSS (power) "Ground", L8 VDD (power) "3.3V/2.5V Power Supply", L9 VDDQ (power) "Isolated Output Power Supply 3.3V/2.5V", M3 VDDQ (power) "Isolated Output Power Supply 3.3V/2.5V", M4 VDD (power) "3.3V/2.5V Power Supply", M5 VSS (power) "Ground", M6 VSS (power) "Ground", M7 VSS (power) "Ground", M8 VDD (power) "3.3V/2.5V Power Supply", M9 VDDQ (power) "Isolated Output Power Supply 3.3V/2.5V", N3 VDDQ (power) "Isolated Output Power Supply 3.3V/2.5V", N4 VSS (power) "Ground", N8 VSS (power) "Ground", N9 VDDQ (power) "Isolated Output Power Supply 3.3V/2.5V"
part C pins: A1 NC "No Connect", A11 NC "No Connect", B1 NC "No Connect", B11 NC "No Connect", C2 NC "No Connect", C10 NC "No Connect", H1 NC "No Connect", H3 NC "No Connect", H9 NC "No Connect", H10 NC "No Connect", N2 NC "No Connect", N5 NC "No Connect", N6 NC "No Connect", N7 NC "No Connect", N10 NC "No Connect", P1 NC "No Connect", P2 NC "No Connect", R2 NC "No Connect"

## IS61LF25636A-7.5B3I-TR
designator U?
9 M Synchronous Flow Through SRAM, 256 K x 36, -40 to 85 degC, 165-Pin BGA (TF-BGA-165); Manufacturer: Integrated Silicon Solution Inc (ISSI); PartNumber: IS61LF25636A-7.5B3I-TR; Density: 9M; Packing: Tape & Reel; Vcc: 3.3 V; VccQ: 2.5 / 3.3 V; DatasheetVersion: Rev. H; PackageVersion: Rev. B, 08/2008; PackageReference: TF-BGA-165; PackageDescription: 165-Pin 13 x 15 mm TF-BGA, Pitch 1 mm; Organization: 256Kx36; Mounting Technology: Surface Mount; ComponentLink1Description: Manufacturer URL; ComponentLink1URL: http://www.issi.com/US/index.shtml; ComponentLink2Description: Datasheet; ComponentLink2URL: http://www.issi.com/WW/pdf/61VF_LF25636A_51218A.pdf; ComponentLink3Description: Package Specification; ComponentLink3URL: http://www.issi.com/WW/pdf/61NLP_NVP25636A_51218A.pdf
footprint ISSI-TF-BGA-165-13000X15000DE (BGA, 165-Balls, Body 15x13mm, Pitch 1mm)
part A pins: A2 A (in) "Synchronous Address Inputs", A3 ~{CE} (in) "Synchronous Chip Enable", A4 ~{BWc} (in) "Synchronous Byte Write Inputs", A5 ~{BWb} (in) "Synchronous Byte Write Inputs", A6 ~{CE2} (in) "Synchronous Chip Enable", A7 ~{BWE} (in) "Byte Write Enable", A8 ~{ADSC} (in) "Synchronous Advance/Load", A9 ~{ADV} (in) "Synchronous Burst Address Advance", A10 A (in) "Synchronous Address Inputs", B2 A (in) "Synchronous Address Inputs", B3 CE2 (in) "Synchronous Chip Enable", B4 ~{BWd} (in) "Synchronous Byte Write Inputs", B5 ~{BWa} (in) "Synchronous Byte Write Inputs", B6 CLK (in) "Synchronous Clock", B7 ~{GW} (in) "Global Write Enable", B8 ~{OE} (in) "Asynchronous Output Enable", B9 ~{ADSP} (in) "Address Status Processor", B10 A (in) "Synchronous Address Inputs", C1 DQPc (io) "Synchronous Parity Data I/O", C11 DQPb (io) "Synchronous Parity Data I/O", D1 DQc (io) "Synchronous Data Inputs/Outputs", D2 DQc (io) "Synchronous Data Inputs/Outputs", D10 DQb (io) "Synchronous Data Inputs/Outputs", D11 DQb (io) "Synchronous Data Inputs/Outputs", E1 DQc (io) "Synchronous Data Inputs/Outputs", E2 DQc (io) "Synchronous Data Inputs/Outputs", E10 DQb (io) "Synchronous Data Inputs/Outputs", E11 DQb (io) "Synchronous Data Inputs/Outputs", F1 DQc (io) "Synchronous Data Inputs/Outputs", F2 DQc (io) "Synchronous Data Inputs/Outputs", F10 DQb (io) "Synchronous Data Inputs/Outputs", F11 DQb (io) "Synchronous Data Inputs/Outputs", G1 DQc (io) "Synchronous Data Inputs/Outputs", G2 DQc (io) "Synchronous Data Inputs/Outputs", G10 DQb (io) "Synchronous Data Inputs/Outputs", G11 DQb (io) "Synchronous Data Inputs/Outputs", H11 ZZ (in) "Asynchronous Power Sleep Mode", J1 DQd (io) "Synchronous Data Inputs/Outputs", J2 DQd (io) "Synchronous Data Inputs/Outputs", J10 DQa (io) "Synchronous Data Inputs/Outputs", J11 DQa (io) "Synchronous Data Inputs/Outputs", K1 DQd (io) "Synchronous Data Inputs/Outputs", K2 DQd (io) "Synchronous Data Inputs/Outputs", K10 DQa (io) "Synchronous Data Inputs/Outputs", K11 DQa (io) "Synchronous Data Inputs/Outputs", L1 DQd (io) "Synchronous Data Inputs/Outputs", L2 DQd (io) "Synchronous Data Inputs/Outputs", L10 DQa (io) "Synchronous Data Inputs/Outputs", L11 DQa (io) "Synchronous Data Inputs/Outputs", M1 DQd (io) "Synchronous Data Inputs/Outputs", M2 DQd (io) "Synchronous Data Inputs/Outputs", M10 DQa (io) "Synchronous Data Inputs/Outputs", M11 DQa (io) "Synchronous Data Inputs/Outputs", N1 DQPd (io) "Synchronous Parity Data I/O", N11 DQPa (io) "Synchronous Parity Data I/O", P3 A (in) "Synchronous Address Inputs", P4 A (in) "Synchronous Address Inputs", P5 TDI (in) "JTAG Pins", P6 A1 (in) "Synchronous Burst Address Inputs", P7 TDO (out) "JTAG Pins", P8 A (in) "Synchronous Address Inputs", P9 A (in) "Synchronous Address Inputs", P10 A (in) "Synchronous Address Inputs", P11 A (in) "Address Input", R1 MODE (in) "Burst Sequence Selection", R3 A (in) "Synchronous Address Inputs", R4 A (in) "Synchronous Address Inputs", R5 TMS (in) "JTAG Pins", R6 A0 (in) "Synchronous Burst Address Inputs", R7 TCK (in) "JTAG Pins", R8 A (in) "Synchronous Address Inputs", R9 A (in) "Synchronous Address Inputs", R10 A (in) "Synchronous Address Inputs", R11 A (in) "Synchronous Address Inputs"
part B pins: C3 VDDQ (power) "Isolated Output Power Supply 3.3V/2.5V", C4 VSS (power) "Ground", C5 VSS (power) "Ground", C6 VSS (power) "Ground", C7 VSS (power) "Ground", C8 VSS (power) "Ground", C9 VDDQ (power) "Isolated Output Power Supply 3.3V/2.5V", D3 VDDQ (power) "Isolated Output Power Supply 3.3V/2.5V", D4 VDD (power) "3.3V/2.5V Power Supply", D5 VSS (power) "Ground", D6 VSS (power) "Ground", D7 VSS (power) "Ground", D8 VDD (power) "3.3V/2.5V Power Supply", D9 VDDQ (power) "Isolated Output Power Supply 3.3V/2.5V", E3 VDDQ (power) "Isolated Output Power Supply 3.3V/2.5V", E4 VDD (power) "3.3V/2.5V Power Supply", E5 VSS (power) "Ground", E6 VSS (power) "Ground", E7 VSS (power) "Ground", E8 VDD (power) "3.3V/2.5V Power Supply", E9 VDDQ (power) "Isolated Output Power Supply 3.3V/2.5V", F3 VDDQ (power) "Isolated Output Power Supply 3.3V/2.5V", F4 VDD (power) "3.3V/2.5V Power Supply", F5 VSS (power) "Ground", F6 VSS (power) "Ground", F7 VSS (power) "Ground", F8 VDD (power) "3.3V/2.5V Power Supply", F9 VDDQ (power) "Isolated Output Power Supply 3.3V/2.5V", G3 VDDQ (power) "Isolated Output Power Supply 3.3V/2.5V", G4 VDD (power) "3.3V/2.5V Power Supply", G5 VSS (power) "Ground", G6 VSS (power) "Ground", G7 VSS (power) "Ground", G8 VDD (power) "3.3V/2.5V Power Supply", G9 VDDQ (power) "Isolated Output Power Supply 3.3V/2.5V", H2 VSS (power) "Ground", H4 VDD (power) "3.3V/2.5V Power Supply", H5 VSS (power) "Ground", H6 VSS (power) "Ground", H7 VSS (power) "Ground", H8 VDD (power) "3.3V/2.5V Power Supply", J3 VDDQ (power) "Isolated Output Power Supply 3.3V/2.5V", J4 VDD (power) "3.3V/2.5V Power Supply", J5 VSS (power) "Ground", J6 VSS (power) "Ground", J7 VSS (power) "Ground", J8 VDD (power) "3.3V/2.5V Power Supply", J9 VDDQ (power) "Isolated Output Power Supply 3.3V/2.5V", K3 VDDQ (power) "Isolated Output Power Supply 3.3V/2.5V", K4 VDD (power) "3.3V/2.5V Power Supply", K5 VSS (power) "Ground", K6 VSS (power) "Ground", K7 VSS (power) "Ground", K8 VDD (power) "3.3V/2.5V Power Supply", K9 VDDQ (power) "Isolated Output Power Supply 3.3V/2.5V", L3 VDDQ (power) "Isolated Output Power Supply 3.3V/2.5V", L4 VDD (power) "3.3V/2.5V Power Supply", L5 VSS (power) "Ground", L6 VSS (power) "Ground", L7 VSS (power) "Ground", L8 VDD (power) "3.3V/2.5V Power Supply", L9 VDDQ (power) "Isolated Output Power Supply 3.3V/2.5V", M3 VDDQ (power) "Isolated Output Power Supply 3.3V/2.5V", M4 VDD (power) "3.3V/2.5V Power Supply", M5 VSS (power) "Ground", M6 VSS (power) "Ground", M7 VSS (power) "Ground", M8 VDD (power) "3.3V/2.5V Power Supply", M9 VDDQ (power) "Isolated Output Power Supply 3.3V/2.5V", N3 VDDQ (power) "Isolated Output Power Supply 3.3V/2.5V", N4 VSS (power) "Ground", N8 VSS (power) "Ground", N9 VDDQ (power) "Isolated Output Power Supply 3.3V/2.5V"
part C pins: A1 NC "No Connect", A11 NC "No Connect", B1 NC "No Connect", B11 NC "No Connect", C2 NC "No Connect", C10 NC "No Connect", H1 NC "No Connect", H3 NC "No Connect", H9 NC "No Connect", H10 NC "No Connect", N2 NC "No Connect", N5 NC "No Connect", N6 NC "No Connect", N7 NC "No Connect", N10 NC "No Connect", P1 NC "No Connect", P2 NC "No Connect", R2 NC "No Connect"

## IS61LF25636A-7.5TQ
designator U?
9 M Synchronous Flow Through SRAM, 256 K x 36, 0 to 70 degC, 100-Pin QFP (TQFP-100); Manufacturer: Integrated Silicon Solution Inc (ISSI); PartNumber: IS61LF25636A-7.5TQ; Density: 9M; Packing: Tray / Tube; Vcc: 3.3 V; VccQ: 2.5 / 3.3 V; DatasheetVersion: Rev. H; PackageVersion: Rev. F, 09/2009; PackageReference: TQFP-100; PackageDescription: 100-Pin 20 x 14 mm LQFP, Pitch 0.65 mm; Organization: 256Kx36; Mounting Technology: Surface Mount; ComponentLink1Description: Manufacturer URL; ComponentLink1URL: http://www.issi.com/US/index.shtml; ComponentLink2Description: Datasheet; ComponentLink2URL: http://www.issi.com/WW/pdf/61VF_LF25636A_51218A.pdf; ComponentLink3Description: Package Specification; ComponentLink3URL: http://www.issi.com/WW/pdf/61VPS_LPS25636A_51218A.pdf
footprint ISSI-TQFP-100-20000X14000DE_N (QFP, 100-Leads, Body 20x14mm, Pitch 0.65mm, IPC Medium Density)
part A pins: 1 DQPc (io) "Parity Data Input/Output", 2 DQc (io) "Synchronous Data Input/Output", 3 DQc (io) "Synchronous Data Input/Output", 6 DQc (io) "Synchronous Data Input/Output", 7 DQc (io) "Synchronous Data Input/Output", 8 DQc (io) "Synchronous Data Input/Output", 9 DQc (io) "Synchronous Data Input/Output", 12 DQc (io) "Synchronous Data Input/Output", 13 DQc (io) "Synchronous Data Input/Output", 18 DQd (io) "Synchronous Data Input/Output", 19 DQd (io) "Synchronous Data Input/Output", 22 DQd (io) "Synchronous Data Input/Output", 23 DQd (io) "Synchronous Data Input/Output", 24 DQd (io) "Synchronous Data Input/Output", 25 DQd (io) "Synchronous Data Input/Output", 28 DQd (io) "Synchronous Data Input/Output", 29 DQd (io) "Synchronous Data Input/Output", 30 DQPd (io) "Parity Data Input/Output", 31 MODE (in) "Burst Sequence Selection", 32 A (in) "Synchronous Address Input", 33 A (in) "Synchronous Address Input", 34 A (in) "Synchronous Address Input", 35 A (in) "Synchronous Address Input", 36 A1 (in) "Synchronous Address Input. These pins must tied to the two LSBs of the address bus", 37 A0 (in) "Synchronous Address Input. These pins must tied to the two LSBs of the address bus", 43 A (in) "Synchronous Address Input", 44 A (in) "Synchronous Address Input", 45 A (in) "Synchronous Address Input", 46 A (in) "Synchronous Address Input", 47 A (in) "Synchronous Address Input", 48 A (in) "Synchronous Address Input", 49 A (in) "Synchronous Address Input", 50 A (in) "Synchronous Address Input", 51 DQPa (io) "Parity Data Input/Output", 52 DQa (io) "Synchronous Data Input/Output", 53 DQa (io) "Synchronous Data Input/Output", 56 DQa (io) "Synchronous Data Input/Output", 57 DQa (io) "Synchronous Data Input/Output", 58 DQa (io) "Synchronous Data Input/Output", 59 DQa (io) "Synchronous Data Input/Output", 62 DQa (io) "Synchronous Data Input/Output", 63 DQa (io) "Synchronous Data Input/Output", 64 ZZ (in) "Snooze Enable", 68 DQb (io) "Synchronous Data Input/Output", 69 DQb (io) "Synchronous Data Input/Output", 72 DQb (io) "Synchronous Data Input/Output", 73 DQb (io) "Synchronous Data Input/Output", 74 DQb (io) "Synchronous Data Input/Output", 75 DQb (io) "Synchronous Data Input/Output", 78 DQb (io) "Synchronous Data Input/Output", 79 DQb (io) "Synchronous Data Input/Output", 80 DQPb (io) "Parity Data Input/Output", 81 A (in) "Synchronous Address Input", 82 A (in) "Synchronous Address Input", 83 ~{ADV} (in) "Synchronous Burst Address Advance", 84 ~{ADSP} (in) "Synchronous Processor Address Status", 85 ~{ADSC} (in) "Synchronous Controller Address Status", 86 ~{OE} (in) "Output Enable", 87 ~{BWE} (in) "Synchronous Byte Write Enable", 88 ~{GW} (in) "Synchronous Global Write Enable", 89 CLK (in) "Synchronous Clock", 92 ~{CE2} (in) "Synchronous Chip Enable", 93 ~{BWa} (in) "Synchronous Byte Write Enable", 94 ~{BWb} (in) "Synchronous Byte Write Enable", 95 ~{BWc} (in) "Synchronous Byte Write Enable", 96 ~{BWd} (in) "Synchronous Byte Write Enable", 97 CE2 (in) "Synchronous Chip Enable", 98 ~{CE} (in) "Synchronous Chip Enable", 99 A (in) "Synchronous Address Input", 100 A (in) "Synchronous Address Input"
part B pins: 4 VDDQ (power) "Isolated Output Buffer Supply: 3.3V/2.5V", 5 VSS (power) "Ground", 10 VSS (power) "Ground", 11 VDDQ (power) "Isolated Output Buffer Supply: 3.3V/2.5V", 15 VDD (power) "3.3V/2.5V Power Supply", 17 VSS (power) "Ground", 20 VDDQ (power) "Isolated Output Buffer Supply: 3.3V/2.5V", 21 VSS (power) "Ground", 26 VSS (power) "Ground", 27 VDDQ (power) "Isolated Output Buffer Supply: 3.3V/2.5V", 40 VSS (power) "Ground", 41 VDD (power) "3.3V/2.5V Power Supply", 54 VDDQ (power) "Isolated Output Buffer Supply: 3.3V/2.5V", 55 VSS (power) "Ground", 60 VSS (power) "Ground", 61 VDDQ (power) "Isolated Output Buffer Supply: 3.3V/2.5V", 65 VDD (power) "3.3V/2.5V Power Supply", 67 VSS (power) "Ground", 70 VDDQ (power) "Isolated Output Buffer Supply: 3.3V/2.5V", 71 VSS (power) "Ground", 76 VSS (power) "Ground", 77 VDDQ (power) "Isolated Output Buffer Supply: 3.3V/2.5V", 90 VSS (power) "Ground", 91 VDD (power) "3.3V/2.5V Power Supply"
part C pins: 14 NC "Not Connected", 16 NC "Not Connected", 38 NC "Not Connected", 39 NC "Not Connected", 42 NC "Not Connected", 66 NC "Not Connected"

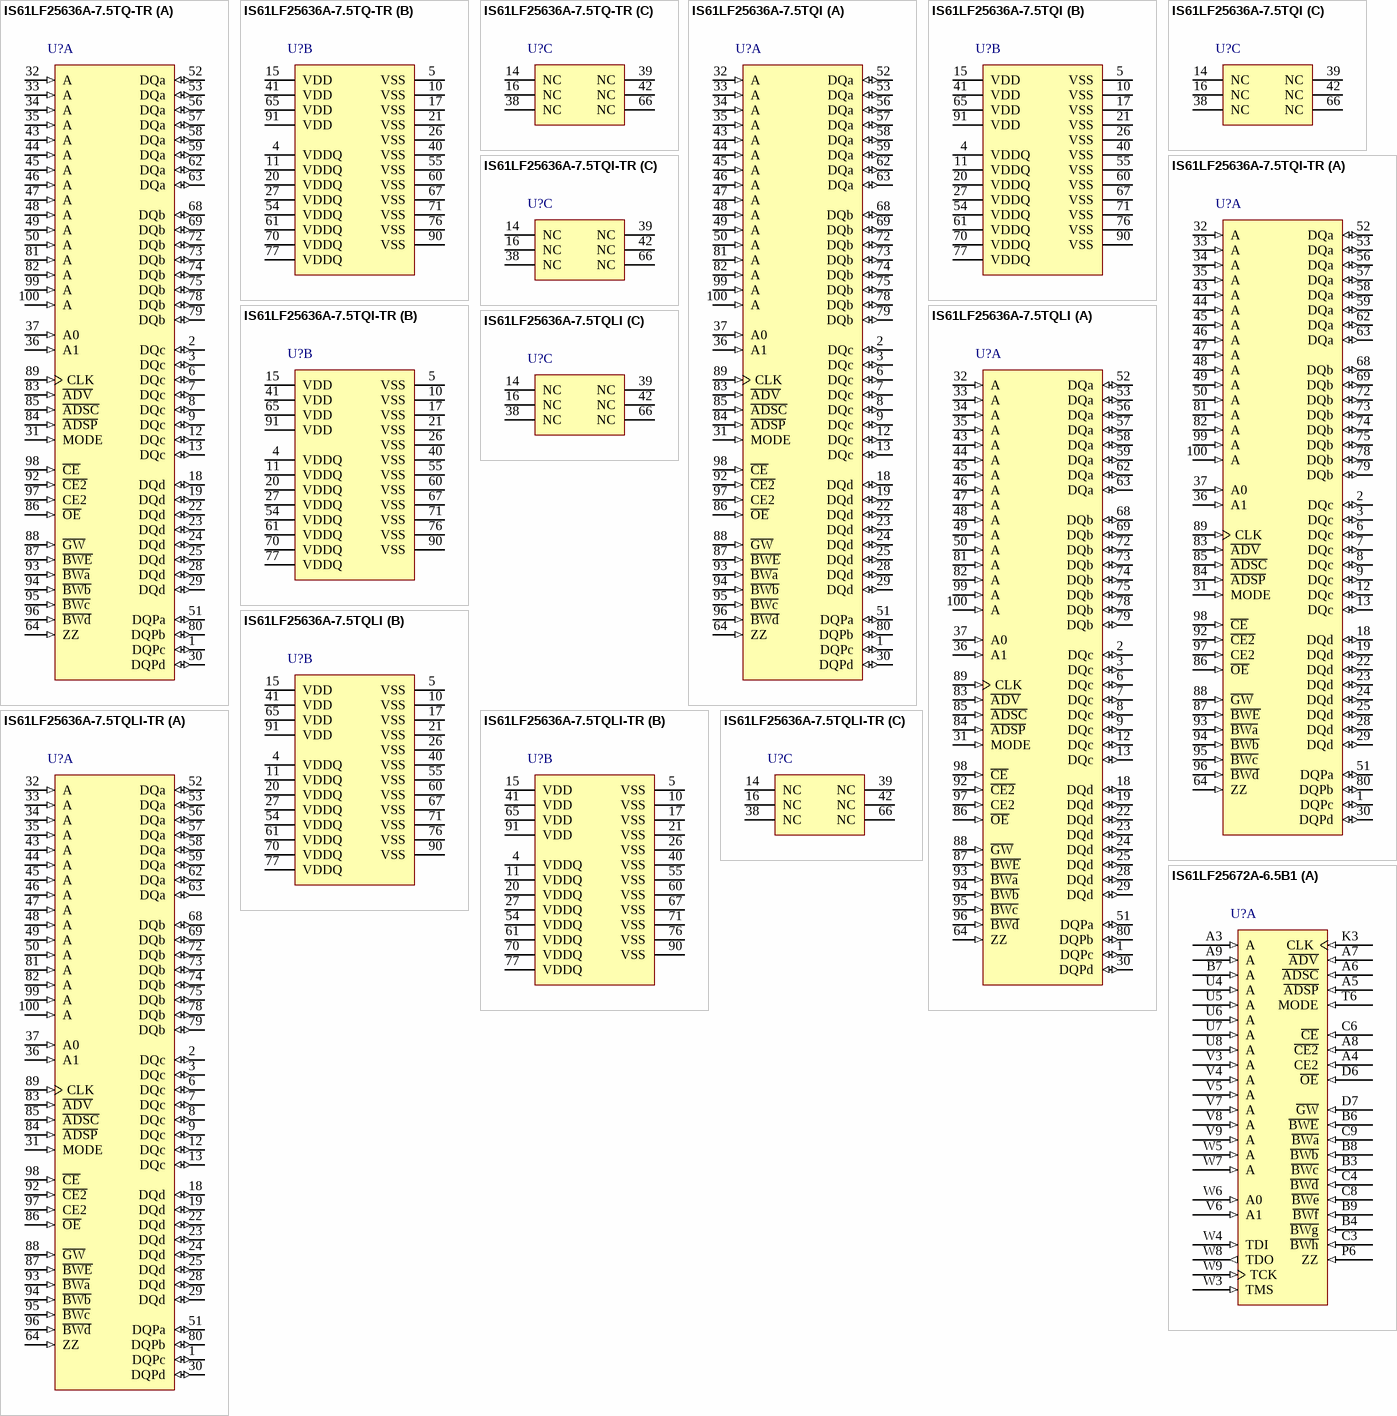
[diagram p47: symbols IS61LF25636A-7.5TQ-TR to IS61LF25672A-6.5B1]

## IS61LF25636A-7.5TQ-TR
designator U?
9 M Synchronous Flow Through SRAM, 256 K x 36, 0 to 70 degC, 100-Pin QFP (TQFP-100); Manufacturer: Integrated Silicon Solution Inc (ISSI); PartNumber: IS61LF25636A-7.5TQ-TR; Density: 9M; Packing: Tape & Reel; Vcc: 3.3 V; VccQ: 2.5 / 3.3 V; DatasheetVersion: Rev. H; PackageVersion: Rev. F, 09/2009; PackageReference: TQFP-100; PackageDescription: 100-Pin 20 x 14 mm LQFP, Pitch 0.65 mm; Organization: 256Kx36; Mounting Technology: Surface Mount; ComponentLink1Description: Manufacturer URL; ComponentLink1URL: http://www.issi.com/US/index.shtml; ComponentLink2Description: Datasheet; ComponentLink2URL: http://www.issi.com/WW/pdf/61VF_LF25636A_51218A.pdf; ComponentLink3Description: Package Specification; ComponentLink3URL: http://www.issi.com/WW/pdf/61VPS_LPS25636A_51218A.pdf
footprint ISSI-TQFP-100-20000X14000DE_N (QFP, 100-Leads, Body 20x14mm, Pitch 0.65mm, IPC Medium Density)
part A pins: 1 DQPc (io) "Parity Data Input/Output", 2 DQc (io) "Synchronous Data Input/Output", 3 DQc (io) "Synchronous Data Input/Output", 6 DQc (io) "Synchronous Data Input/Output", 7 DQc (io) "Synchronous Data Input/Output", 8 DQc (io) "Synchronous Data Input/Output", 9 DQc (io) "Synchronous Data Input/Output", 12 DQc (io) "Synchronous Data Input/Output", 13 DQc (io) "Synchronous Data Input/Output", 18 DQd (io) "Synchronous Data Input/Output", 19 DQd (io) "Synchronous Data Input/Output", 22 DQd (io) "Synchronous Data Input/Output", 23 DQd (io) "Synchronous Data Input/Output", 24 DQd (io) "Synchronous Data Input/Output", 25 DQd (io) "Synchronous Data Input/Output", 28 DQd (io) "Synchronous Data Input/Output", 29 DQd (io) "Synchronous Data Input/Output", 30 DQPd (io) "Parity Data Input/Output", 31 MODE (in) "Burst Sequence Selection", 32 A (in) "Synchronous Address Input", 33 A (in) "Synchronous Address Input", 34 A (in) "Synchronous Address Input", 35 A (in) "Synchronous Address Input", 36 A1 (in) "Synchronous Address Input. These pins must tied to the two LSBs of the address bus", 37 A0 (in) "Synchronous Address Input. These pins must tied to the two LSBs of the address bus", 43 A (in) "Synchronous Address Input", 44 A (in) "Synchronous Address Input", 45 A (in) "Synchronous Address Input", 46 A (in) "Synchronous Address Input", 47 A (in) "Synchronous Address Input", 48 A (in) "Synchronous Address Input", 49 A (in) "Synchronous Address Input", 50 A (in) "Synchronous Address Input", 51 DQPa (io) "Parity Data Input/Output", 52 DQa (io) "Synchronous Data Input/Output", 53 DQa (io) "Synchronous Data Input/Output", 56 DQa (io) "Synchronous Data Input/Output", 57 DQa (io) "Synchronous Data Input/Output", 58 DQa (io) "Synchronous Data Input/Output", 59 DQa (io) "Synchronous Data Input/Output", 62 DQa (io) "Synchronous Data Input/Output", 63 DQa (io) "Synchronous Data Input/Output", 64 ZZ (in) "Snooze Enable", 68 DQb (io) "Synchronous Data Input/Output", 69 DQb (io) "Synchronous Data Input/Output", 72 DQb (io) "Synchronous Data Input/Output", 73 DQb (io) "Synchronous Data Input/Output", 74 DQb (io) "Synchronous Data Input/Output", 75 DQb (io) "Synchronous Data Input/Output", 78 DQb (io) "Synchronous Data Input/Output", 79 DQb (io) "Synchronous Data Input/Output", 80 DQPb (io) "Parity Data Input/Output", 81 A (in) "Synchronous Address Input", 82 A (in) "Synchronous Address Input", 83 ~{ADV} (in) "Synchronous Burst Address Advance", 84 ~{ADSP} (in) "Synchronous Processor Address Status", 85 ~{ADSC} (in) "Synchronous Controller Address Status", 86 ~{OE} (in) "Output Enable", 87 ~{BWE} (in) "Synchronous Byte Write Enable", 88 ~{GW} (in) "Synchronous Global Write Enable", 89 CLK (in) "Synchronous Clock", 92 ~{CE2} (in) "Synchronous Chip Enable", 93 ~{BWa} (in) "Synchronous Byte Write Enable", 94 ~{BWb} (in) "Synchronous Byte Write Enable", 95 ~{BWc} (in) "Synchronous Byte Write Enable", 96 ~{BWd} (in) "Synchronous Byte Write Enable", 97 CE2 (in) "Synchronous Chip Enable", 98 ~{CE} (in) "Synchronous Chip Enable", 99 A (in) "Synchronous Address Input", 100 A (in) "Synchronous Address Input"
part B pins: 4 VDDQ (power) "Isolated Output Buffer Supply: 3.3V/2.5V", 5 VSS (power) "Ground", 10 VSS (power) "Ground", 11 VDDQ (power) "Isolated Output Buffer Supply: 3.3V/2.5V", 15 VDD (power) "3.3V/2.5V Power Supply", 17 VSS (power) "Ground", 20 VDDQ (power) "Isolated Output Buffer Supply: 3.3V/2.5V", 21 VSS (power) "Ground", 26 VSS (power) "Ground", 27 VDDQ (power) "Isolated Output Buffer Supply: 3.3V/2.5V", 40 VSS (power) "Ground", 41 VDD (power) "3.3V/2.5V Power Supply", 54 VDDQ (power) "Isolated Output Buffer Supply: 3.3V/2.5V", 55 VSS (power) "Ground", 60 VSS (power) "Ground", 61 VDDQ (power) "Isolated Output Buffer Supply: 3.3V/2.5V", 65 VDD (power) "3.3V/2.5V Power Supply", 67 VSS (power) "Ground", 70 VDDQ (power) "Isolated Output Buffer Supply: 3.3V/2.5V", 71 VSS (power) "Ground", 76 VSS (power) "Ground", 77 VDDQ (power) "Isolated Output Buffer Supply: 3.3V/2.5V", 90 VSS (power) "Ground", 91 VDD (power) "3.3V/2.5V Power Supply"
part C pins: 14 NC "Not Connected", 16 NC "Not Connected", 38 NC "Not Connected", 39 NC "Not Connected", 42 NC "Not Connected", 66 NC "Not Connected"

## IS61LF25636A-7.5TQI
designator U?
9 M Synchronous Flow Through SRAM, 256 K x 36, -40 to 85 degC, 100-Pin QFP (TQFP-100); Manufacturer: Integrated Silicon Solution Inc (ISSI); PartNumber: IS61LF25636A-7.5TQI; Density: 9M; Packing: Tray / Tube; Vcc: 3.3 V; VccQ: 2.5 / 3.3 V; DatasheetVersion: Rev. H; PackageVersion: Rev. F, 09/2009; PackageReference: TQFP-100; PackageDescription: 100-Pin 20 x 14 mm LQFP, Pitch 0.65 mm; Supplier 1: Digi-Key; Supplier Part Number 1: IS61LF25636A-7.5TQI-ND; Supplier 2: Mouser; Supplier Part Number 2: 870IS61LF25636A75TQI; Organization: 256Kx36; Mounting Technology: Surface Mount; ComponentLink1Description: Manufacturer URL; ComponentLink1URL: http://www.issi.com/US/index.shtml; ComponentLink2Description: Datasheet; ComponentLink2URL: http://www.issi.com/WW/pdf/61VF_LF25636A_51218A.pdf; ComponentLink3Description: Package Specification; ComponentLink3URL: http://www.issi.com/WW/pdf/61VPS_LPS25636A_51218A.pdf
footprint ISSI-TQFP-100-20000X14000DE_N (QFP, 100-Leads, Body 20x14mm, Pitch 0.65mm, IPC Medium Density)
part A pins: 1 DQPc (io) "Parity Data Input/Output", 2 DQc (io) "Synchronous Data Input/Output", 3 DQc (io) "Synchronous Data Input/Output", 6 DQc (io) "Synchronous Data Input/Output", 7 DQc (io) "Synchronous Data Input/Output", 8 DQc (io) "Synchronous Data Input/Output", 9 DQc (io) "Synchronous Data Input/Output", 12 DQc (io) "Synchronous Data Input/Output", 13 DQc (io) "Synchronous Data Input/Output", 18 DQd (io) "Synchronous Data Input/Output", 19 DQd (io) "Synchronous Data Input/Output", 22 DQd (io) "Synchronous Data Input/Output", 23 DQd (io) "Synchronous Data Input/Output", 24 DQd (io) "Synchronous Data Input/Output", 25 DQd (io) "Synchronous Data Input/Output", 28 DQd (io) "Synchronous Data Input/Output", 29 DQd (io) "Synchronous Data Input/Output", 30 DQPd (io) "Parity Data Input/Output", 31 MODE (in) "Burst Sequence Selection", 32 A (in) "Synchronous Address Input", 33 A (in) "Synchronous Address Input", 34 A (in) "Synchronous Address Input", 35 A (in) "Synchronous Address Input", 36 A1 (in) "Synchronous Address Input. These pins must tied to the two LSBs of the address bus", 37 A0 (in) "Synchronous Address Input. These pins must tied to the two LSBs of the address bus", 43 A (in) "Synchronous Address Input", 44 A (in) "Synchronous Address Input", 45 A (in) "Synchronous Address Input", 46 A (in) "Synchronous Address Input", 47 A (in) "Synchronous Address Input", 48 A (in) "Synchronous Address Input", 49 A (in) "Synchronous Address Input", 50 A (in) "Synchronous Address Input", 51 DQPa (io) "Parity Data Input/Output", 52 DQa (io) "Synchronous Data Input/Output", 53 DQa (io) "Synchronous Data Input/Output", 56 DQa (io) "Synchronous Data Input/Output", 57 DQa (io) "Synchronous Data Input/Output", 58 DQa (io) "Synchronous Data Input/Output", 59 DQa (io) "Synchronous Data Input/Output", 62 DQa (io) "Synchronous Data Input/Output", 63 DQa (io) "Synchronous Data Input/Output", 64 ZZ (in) "Snooze Enable", 68 DQb (io) "Synchronous Data Input/Output", 69 DQb (io) "Synchronous Data Input/Output", 72 DQb (io) "Synchronous Data Input/Output", 73 DQb (io) "Synchronous Data Input/Output", 74 DQb (io) "Synchronous Data Input/Output", 75 DQb (io) "Synchronous Data Input/Output", 78 DQb (io) "Synchronous Data Input/Output", 79 DQb (io) "Synchronous Data Input/Output", 80 DQPb (io) "Parity Data Input/Output", 81 A (in) "Synchronous Address Input", 82 A (in) "Synchronous Address Input", 83 ~{ADV} (in) "Synchronous Burst Address Advance", 84 ~{ADSP} (in) "Synchronous Processor Address Status", 85 ~{ADSC} (in) "Synchronous Controller Address Status", 86 ~{OE} (in) "Output Enable", 87 ~{BWE} (in) "Synchronous Byte Write Enable", 88 ~{GW} (in) "Synchronous Global Write Enable", 89 CLK (in) "Synchronous Clock", 92 ~{CE2} (in) "Synchronous Chip Enable", 93 ~{BWa} (in) "Synchronous Byte Write Enable", 94 ~{BWb} (in) "Synchronous Byte Write Enable", 95 ~{BWc} (in) "Synchronous Byte Write Enable", 96 ~{BWd} (in) "Synchronous Byte Write Enable", 97 CE2 (in) "Synchronous Chip Enable", 98 ~{CE} (in) "Synchronous Chip Enable", 99 A (in) "Synchronous Address Input", 100 A (in) "Synchronous Address Input"
part B pins: 4 VDDQ (power) "Isolated Output Buffer Supply: 3.3V/2.5V", 5 VSS (power) "Ground", 10 VSS (power) "Ground", 11 VDDQ (power) "Isolated Output Buffer Supply: 3.3V/2.5V", 15 VDD (power) "3.3V/2.5V Power Supply", 17 VSS (power) "Ground", 20 VDDQ (power) "Isolated Output Buffer Supply: 3.3V/2.5V", 21 VSS (power) "Ground", 26 VSS (power) "Ground", 27 VDDQ (power) "Isolated Output Buffer Supply: 3.3V/2.5V", 40 VSS (power) "Ground", 41 VDD (power) "3.3V/2.5V Power Supply", 54 VDDQ (power) "Isolated Output Buffer Supply: 3.3V/2.5V", 55 VSS (power) "Ground", 60 VSS (power) "Ground", 61 VDDQ (power) "Isolated Output Buffer Supply: 3.3V/2.5V", 65 VDD (power) "3.3V/2.5V Power Supply", 67 VSS (power) "Ground", 70 VDDQ (power) "Isolated Output Buffer Supply: 3.3V/2.5V", 71 VSS (power) "Ground", 76 VSS (power) "Ground", 77 VDDQ (power) "Isolated Output Buffer Supply: 3.3V/2.5V", 90 VSS (power) "Ground", 91 VDD (power) "3.3V/2.5V Power Supply"
part C pins: 14 NC "Not Connected", 16 NC "Not Connected", 38 NC "Not Connected", 39 NC "Not Connected", 42 NC "Not Connected", 66 NC "Not Connected"